# Altium schematic symbol library extendedLib.SchLib: 4 symbols
Pins are listed as number, name and electrical type; pins without a type are passive.

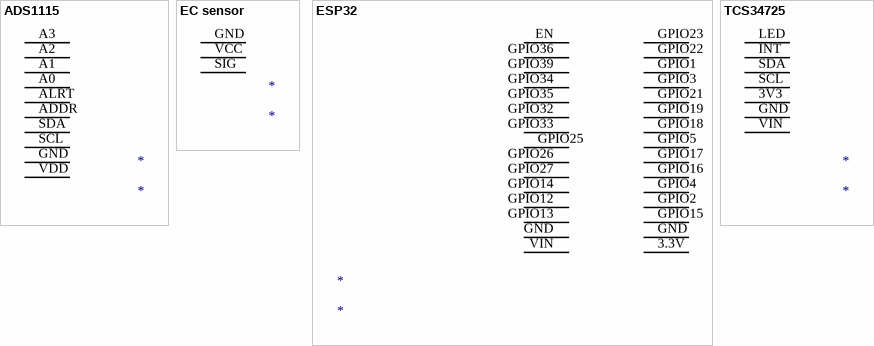
[diagram p0: symbols ADS1115 to TCS34725]

## ADS1115
designator *
pins: A0 38, A1 33, A2 41, A3 31, ADDR 39, ALRT 37, GND 36, SCL, SDA 34, VDD 35

## EC sensor
designator *
pins: GND 42, SIG 44, VCC 43

## ESP32
designator *
pins: 3.3V 30, EN, GND 1, GND 29, GPIO1 18, GPIO2 27, GPIO3 19, GPIO4 26, GPIO5, GPIO12 3, GPIO13 2, GPIO14 4, GPIO15 28, GPIO16 25, GPIO17 24, GPIO18 22, GPIO19 21, GPIO21 20, GPIO22 17, GPIO23 16, GPIO25 7, GPIO26 6, GPIO27 5, GPIO32 9, GPIO33 8, GPIO34 11, GPIO35 10, GPIO36, GPIO39, VIN 0

## TCS34725
designator *
pins: 3V3, GND 47, INT 43, LED 42, SCL 45, SDA 44, VIN 48